# Altium integrated library WE-TPC.IntLib: 262 symbols (part 3 of 3)
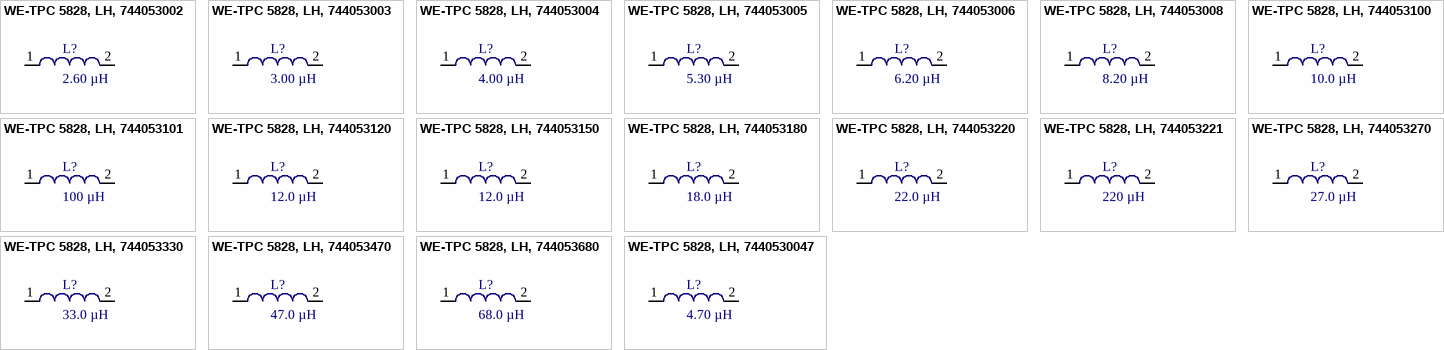
[diagram p17: symbols WE-TPC 5828, LH, 744053002 to WE-TPC 5828, LH, 7440530047]

## WE-TPC 5828, LH, 7440530047
designator L?, comment 4.70 µH
SMD Shielded Tiny Power Inductor WE-TPC, L=4.70 µH; partNo: 7440530047; Manufacturer: Würth Elektronik eiSos GmbH; Inductance: 4.70 µH; ComponentLink1Description: Manufacturer; ComponentLink1URL: http://www.we-online.de; Created by: Christin Zierenner; Created Date: July 2009; ComponentLink2Description: ComponentLink2Description; ComponentLink2URL: http://www.we-online.de/katalog/media/pdf/7440530047.pdf
footprint WE-TPC 5828, LH (SMD Inductor, 2-Leads, Body 5,8x5,8mm)
pins: 1, 2


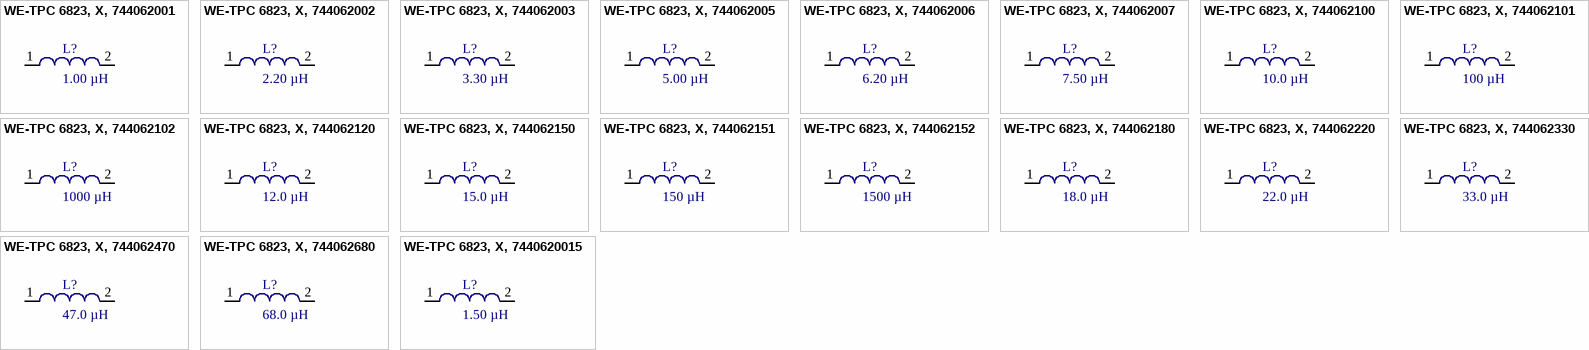
[diagram p11: symbols WE-TPC 6823, X, 744062001 to WE-TPC 6823, X, 7440620015]

## WE-TPC 6823, X, 744062001
designator L?, comment 1.00 µH
SMD Shielded Tiny Power Inductor WE-TPC, L=1.00 µH; partNo: 744062001; Manufacturer: Würth Elektronik eiSos GmbH; Inductance: 1.00 µH; ComponentLink1Description: Manufacturer; ComponentLink1URL: http://www.we-online.de; Created by: Christin Zierenner; Created Date: July 2009; ComponentLink2Description: Datasheet; ComponentLink2URL: http://www.we-online.de/katalog/media/pdf/744062001.pdf
footprint WE-TPC 6823, X (SMD Inductor, 2-Leads, Body 6,8x6,8mm)
pins: 1, 2

## WE-TPC 6823, X, 744062002
designator L?, comment 2.20 µH
SMD Shielded Tiny Power Inductor WE-TPC, L=2.20 µH; partNo: 744062002; Manufacturer: Würth Elektronik eiSos GmbH; Inductance: 2.20 µH; ComponentLink1Description: Manufacturer; ComponentLink1URL: http://www.we-online.de; Created by: Christin Zierenner; Created Date: July 2009; ComponentLink2Description: Datasheet; ComponentLink2URL: http://www.we-online.de/katalog/media/pdf/744062002.pdf
footprint WE-TPC 6823, X (SMD Inductor, 2-Leads, Body 6,8x6,8mm)
pins: 1, 2

## WE-TPC 6823, X, 744062003
designator L?, comment 3.30 µH
SMD Shielded Tiny Power Inductor WE-TPC, L=3.30 µH; partNo: 744062003; Manufacturer: Würth Elektronik eiSos GmbH; Inductance: 3.30 µH; ComponentLink1Description: Manufacturer; ComponentLink1URL: http://www.we-online.de; Created by: Christin Zierenner; Created Date: July 2009; ComponentLink2Description: Datasheet; ComponentLink2URL: http://www.we-online.de/katalog/media/pdf/744062003.pdf
footprint WE-TPC 6823, X (SMD Inductor, 2-Leads, Body 6,8x6,8mm)
pins: 1, 2

## WE-TPC 6823, X, 744062005
designator L?, comment 5.00 µH
SMD Shielded Tiny Power Inductor WE-TPC, L=5.00 µH; partNo: 744062005; Manufacturer: Würth Elektronik eiSos GmbH; Inductance: 5.00 µH; ComponentLink1Description: Manufacturer; ComponentLink1URL: http://www.we-online.de; Created by: Christin Zierenner; Created Date: July 2009; ComponentLink2Description: Datasheet; ComponentLink2URL: http://www.we-online.de/katalog/media/pdf/744062005.pdf
footprint WE-TPC 6823, X (SMD Inductor, 2-Leads, Body 6,8x6,8mm)
pins: 1, 2

## WE-TPC 6823, X, 744062006
designator L?, comment 6.20 µH
SMD Shielded Tiny Power Inductor WE-TPC, L=6.20 µH; partNo: 744062006; Manufacturer: Würth Elektronik eiSos GmbH; Inductance: 6.20 µH; ComponentLink1Description: Manufacturer; ComponentLink1URL: http://www.we-online.de; Created by: Christin Zierenner; Created Date: July 2009; ComponentLink2Description: Datasheet; ComponentLink2URL: http://www.we-online.de/katalog/media/pdf/744062006.pdf
footprint WE-TPC 6823, X (SMD Inductor, 2-Leads, Body 6,8x6,8mm)
pins: 1, 2

## WE-TPC 6823, X, 744062007
designator L?, comment 7.50 µH
SMD Shielded Tiny Power Inductor WE-TPC, L=7.50 µH; partNo: 744062007; Manufacturer: Würth Elektronik eiSos GmbH; Inductance: 7.50 µH; ComponentLink1Description: Manufacturer; ComponentLink1URL: http://www.we-online.de; Created by: Christin Zierenner; Created Date: July 2009; ComponentLink2Description: Datasheet; ComponentLink2URL: http://www.we-online.de/katalog/media/pdf/744062007.pdf
footprint WE-TPC 6823, X (SMD Inductor, 2-Leads, Body 6,8x6,8mm)
pins: 1, 2

## WE-TPC 6823, X, 744062100
designator L?, comment 10.0 µH
SMD Shielded Tiny Power Inductor WE-TPC, L=10.0 µH; partNo: 744062100; Manufacturer: Würth Elektronik eiSos GmbH; Inductance: 10.0 µH; ComponentLink1Description: Manufacturer; ComponentLink1URL: http://www.we-online.de; Created by: Christin Zierenner; Created Date: July 2009; ComponentLink2Description: Datasheet; ComponentLink2URL: http://www.we-online.de/katalog/media/pdf/744062100.pdf
footprint WE-TPC 6823, X (SMD Inductor, 2-Leads, Body 6,8x6,8mm)
pins: 1, 2

## WE-TPC 6823, X, 744062101
designator L?, comment 100 µH
SMD Shielded Tiny Power Inductor WE-TPC, L=100 µH; partNo: 744062101; Manufacturer: Würth Elektronik eiSos GmbH; Inductance: 100 µH; ComponentLink1Description: Manufacturer; ComponentLink1URL: http://www.we-online.de; Created by: Christin Zierenner; Created Date: July 2009; ComponentLink2Description: Datasheet; ComponentLink2URL: http://www.we-online.de/katalog/media/pdf/744062101.pdf
footprint WE-TPC 6823, X (SMD Inductor, 2-Leads, Body 6,8x6,8mm)
pins: 1, 2

## WE-TPC 6823, X, 744062102
designator L?, comment 1000 µH
SMD Shielded Tiny Power Inductor WE-TPC, L=1000 µH; partNo: 744062102; Manufacturer: Würth Elektronik eiSos GmbH; Inductance: 1000 µH; ComponentLink1Description: Manufacturer; ComponentLink1URL: http://www.we-online.de; Created by: Christin Zierenner; Created Date: July 2009; ComponentLink2Description: Datasheet; ComponentLink2URL: http://www.we-online.de/katalog/media/pdf/744062102.pdf
footprint WE-TPC 6823, X (SMD Inductor, 2-Leads, Body 6,8x6,8mm)
pins: 1, 2

## WE-TPC 6823, X, 744062120
designator L?, comment 12.0 µH
SMD Shielded Tiny Power Inductor WE-TPC, L=12.0 µH; partNo: 744062120; Manufacturer: Würth Elektronik eiSos GmbH; Inductance: 12.0 µH; ComponentLink1Description: Manufacturer; ComponentLink1URL: http://www.we-online.de; Created by: Christin Zierenner; Created Date: July 2009; ComponentLink2Description: Datasheet; ComponentLink2URL: http://www.we-online.de/katalog/media/pdf/744062120.pdf
footprint WE-TPC 6823, X (SMD Inductor, 2-Leads, Body 6,8x6,8mm)
pins: 1, 2

## WE-TPC 6823, X, 744062150
designator L?, comment 15.0 µH
SMD Shielded Tiny Power Inductor WE-TPC, L=15.0 µH; partNo: 744062150; Manufacturer: Würth Elektronik eiSos GmbH; Inductance: 15.0 µH; ComponentLink1Description: Manufacturer; ComponentLink1URL: http://www.we-online.de; Created by: Christin Zierenner; Created Date: July 2009; ComponentLink2Description: Datasheet; ComponentLink2URL: http://www.we-online.de/katalog/media/pdf/744062150.pdf
footprint WE-TPC 6823, X (SMD Inductor, 2-Leads, Body 6,8x6,8mm)
pins: 1, 2

## WE-TPC 6823, X, 744062151
designator L?, comment 150 µH
SMD Shielded Tiny Power Inductor WE-TPC, L=150 µH; partNo: 744062151; Manufacturer: Würth Elektronik eiSos GmbH; Inductance: 150 µH; ComponentLink1Description: Manufacturer; ComponentLink1URL: http://www.we-online.de; Created by: Christin Zierenner; Created Date: July 2009; ComponentLink2Description: Datasheet; ComponentLink2URL: http://www.we-online.de/katalog/media/pdf/744062151.pdf
footprint WE-TPC 6823, X (SMD Inductor, 2-Leads, Body 6,8x6,8mm)
pins: 1, 2

## WE-TPC 6823, X, 744062152
designator L?, comment 1500 µH
SMD Shielded Tiny Power Inductor WE-TPC, L=1500 µH; partNo: 744062152; Manufacturer: Würth Elektronik eiSos GmbH; Inductance: 1500 µH; ComponentLink1Description: Manufacturer; ComponentLink1URL: http://www.we-online.de; Created by: Christin Zierenner; Created Date: July 2009; ComponentLink2Description: Datasheet; ComponentLink2URL: http://www.we-online.de/katalog/media/pdf/744062152.pdf
footprint WE-TPC 6823, X (SMD Inductor, 2-Leads, Body 6,8x6,8mm)
pins: 1, 2

## WE-TPC 6823, X, 744062180
designator L?, comment 18.0 µH
SMD Shielded Tiny Power Inductor WE-TPC, L=18.0 µH; partNo: 744062180; Manufacturer: Würth Elektronik eiSos GmbH; Inductance: 18.0 µH; ComponentLink1Description: Manufacturer; ComponentLink1URL: http://www.we-online.de; Created by: Christin Zierenner; Created Date: July 2009; ComponentLink2Description: Datasheet; ComponentLink2URL: http://www.we-online.de/katalog/media/pdf/744062180.pdf
footprint WE-TPC 6823, X (SMD Inductor, 2-Leads, Body 6,8x6,8mm)
pins: 1, 2

## WE-TPC 6823, X, 744062220
designator L?, comment 22.0 µH
SMD Shielded Tiny Power Inductor WE-TPC, L=22.0 µH; partNo: 744062220; Manufacturer: Würth Elektronik eiSos GmbH; Inductance: 22.0 µH; ComponentLink1Description: Manufacturer; ComponentLink1URL: http://www.we-online.de; Created by: Christin Zierenner; Created Date: July 2009; ComponentLink2Description: Datasheet; ComponentLink2URL: http://www.we-online.de/katalog/media/pdf/744062220.pdf
footprint WE-TPC 6823, X (SMD Inductor, 2-Leads, Body 6,8x6,8mm)
pins: 1, 2

## WE-TPC 6823, X, 744062330
designator L?, comment 33.0 µH
SMD Shielded Tiny Power Inductor WE-TPC, L=33.0 µH; partNo: 744062330; Manufacturer: Würth Elektronik eiSos GmbH; Inductance: 33.0 µH; ComponentLink1Description: Manufacturer; ComponentLink1URL: http://www.we-online.de; Created by: Christin Zierenner; Created Date: July 2009; ComponentLink2Description: Datasheet; ComponentLink2URL: http://www.we-online.de/katalog/media/pdf/744062330.pdf
footprint WE-TPC 6823, X (SMD Inductor, 2-Leads, Body 6,8x6,8mm)
pins: 1, 2

## WE-TPC 6823, X, 744062470
designator L?, comment 47.0 µH
SMD Shielded Tiny Power Inductor WE-TPC, L=47.0 µH; partNo: 744062470; Manufacturer: Würth Elektronik eiSos GmbH; Inductance: 47.0 µH; ComponentLink1Description: Manufacturer; ComponentLink1URL: http://www.we-online.de; Created by: Christin Zierenner; Created Date: July 2009; ComponentLink2Description: Datasheet; ComponentLink2URL: http://www.we-online.de/katalog/media/pdf/744062470.pdf
footprint WE-TPC 6823, X (SMD Inductor, 2-Leads, Body 6,8x6,8mm)
pins: 1, 2

## WE-TPC 6823, X, 744062680
designator L?, comment 68.0 µH
SMD Shielded Tiny Power Inductor WE-TPC, L=68.0 µH; partNo: 744062680; Manufacturer: Würth Elektronik eiSos GmbH; Inductance: 68.0 µH; ComponentLink1Description: Manufacturer; ComponentLink1URL: http://www.we-online.de; Created by: Christin Zierenner; Created Date: July 2009; ComponentLink2Description: Datasheet; ComponentLink2URL: http://www.we-online.de/katalog/media/pdf/744062680.pdf
footprint WE-TPC 6823, X (SMD Inductor, 2-Leads, Body 6,8x6,8mm)
pins: 1, 2

## WE-TPC 6823, X, 7440620015
designator L?, comment 1.50 µH
SMD Shielded Tiny Power Inductor WE-TPC, L=1.50 µH; partNo: 7440620015; Manufacturer: Würth Elektronik eiSos GmbH; Inductance: 1.50 µH; ComponentLink1Description: Manufacturer; ComponentLink1URL: http://www.we-online.de; Created by: Christin Zierenner; Created Date: July 2009; ComponentLink2Description: Datasheet; ComponentLink2URL: http://www.we-online.de/katalog/media/pdf/7440620015.pdf
footprint WE-TPC 6823, X (SMD Inductor, 2-Leads, Body 6,8x6,8mm)
pins: 1, 2


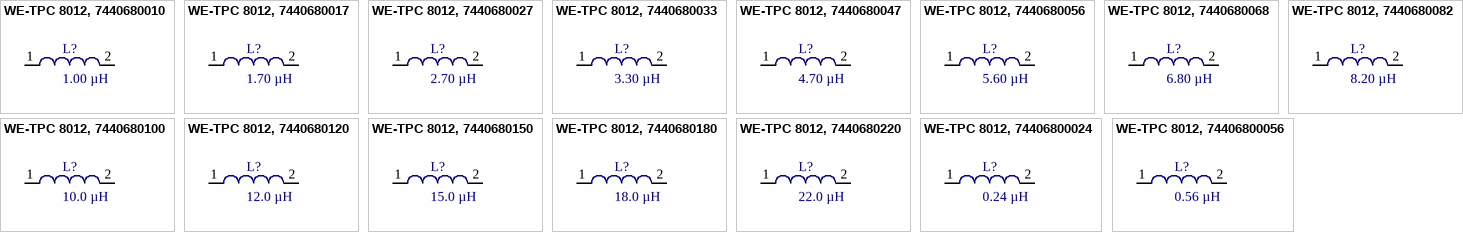
[diagram p12: symbols WE-TPC 8012, 7440680010 to WE-TPC 8012, 74406800056]

## WE-TPC 8012, 7440680010
designator L?, comment 1.00 µH
SMD Shielded Tiny Power Inductor WE-TPC, L=1.00 µH; partNo: 7440680010; Manufacturer: Würth Elektronik eiSos GmbH; Inductance: 1.00 µH; ComponentLink1Description: Manufacturer; ComponentLink1URL: http://www.we-online.de; Created by: Christin Zierenner; Created Date: July 2009; ComponentLink2Description: Datasheet; ComponentLink2URL: http://www.we-online.de/katalog/media/pdf/7440680010.pdf
footprint WE-TPC 8012 (SMD Inductor, 2-Leads, Body 8,0x8,0mm)
pins: 1, 2

## WE-TPC 8012, 7440680017
designator L?, comment 1.70 µH
SMD Shielded Tiny Power Inductor WE-TPC, L=1.70 µH; partNo: 7440680017; Manufacturer: Würth Elektronik eiSos GmbH; Inductance: 1.70 µH; ComponentLink1Description: Manufacturer; ComponentLink1URL: http://www.we-online.de; Created by: Christin Zierenner; Created Date: July 2009; ComponentLink2Description: Datasheet; ComponentLink2URL: http://www.we-online.de/katalog/media/pdf/7440680017.pdf
footprint WE-TPC 8012 (SMD Inductor, 2-Leads, Body 8,0x8,0mm)
pins: 1, 2

## WE-TPC 8012, 7440680027
designator L?, comment 2.70 µH
SMD Shielded Tiny Power Inductor WE-TPC, L=2.70 µH; partNo: 7440680027; Manufacturer: Würth Elektronik eiSos GmbH; Inductance: 2.70 µH; ComponentLink1Description: Manufacturer; ComponentLink1URL: http://www.we-online.de; Created by: Christin Zierenner; Created Date: July 2009; ComponentLink2Description: Datasheet; ComponentLink2URL: http://www.we-online.de/katalog/media/pdf/7440680027.pdf
footprint WE-TPC 8012 (SMD Inductor, 2-Leads, Body 8,0x8,0mm)
pins: 1, 2

## WE-TPC 8012, 7440680033
designator L?, comment 3.30 µH
SMD Shielded Tiny Power Inductor WE-TPC, L=3.30 µH; partNo: 7440680033; Manufacturer: Würth Elektronik eiSos GmbH; Inductance: 3.30 µH; ComponentLink1Description: Manufacturer; ComponentLink1URL: http://www.we-online.de; Created by: Christin Zierenner; Created Date: July 2009; ComponentLink2Description: Datasheet; ComponentLink2URL: http://www.we-online.de/katalog/media/pdf/7440680033.pdf
footprint WE-TPC 8012 (SMD Inductor, 2-Leads, Body 8,0x8,0mm)
pins: 1, 2

## WE-TPC 8012, 7440680047
designator L?, comment 4.70 µH
SMD Shielded Tiny Power Inductor WE-TPC, L=4.70 µH; partNo: 7440680047; Manufacturer: Würth Elektronik eiSos GmbH; Inductance: 4.70 µH; ComponentLink1Description: Manufacturer; ComponentLink1URL: http://www.we-online.de; Created by: Christin Zierenner; Created Date: July 2009; ComponentLink2Description: Datasheet; ComponentLink2URL: http://www.we-online.de/katalog/media/pdf/7440680047.pdf
footprint WE-TPC 8012 (SMD Inductor, 2-Leads, Body 8,0x8,0mm)
pins: 1, 2

## WE-TPC 8012, 7440680056
designator L?, comment 5.60 µH
SMD Shielded Tiny Power Inductor WE-TPC, L=5.60 µH; partNo: 7440680056; Manufacturer: Würth Elektronik eiSos GmbH; Inductance: 5.60 µH; ComponentLink1Description: Manufacturer; ComponentLink1URL: http://www.we-online.de; Created by: Christin Zierenner; Created Date: July 2009; ComponentLink2Description: Datasheet; ComponentLink2URL: http://www.we-online.de/katalog/media/pdf/7440680056.pdf
footprint WE-TPC 8012 (SMD Inductor, 2-Leads, Body 8,0x8,0mm)
pins: 1, 2

## WE-TPC 8012, 7440680068
designator L?, comment 6.80 µH
SMD Shielded Tiny Power Inductor WE-TPC, L=6.80 µH; partNo: 7440680068; Manufacturer: Würth Elektronik eiSos GmbH; Inductance: 6.80 µH; ComponentLink1Description: Manufacturer; ComponentLink1URL: http://www.we-online.de; Created by: Christin Zierenner; Created Date: July 2009; ComponentLink2Description: Datasheet; ComponentLink2URL: http://www.we-online.de/katalog/media/pdf/7440680068.pdf
footprint WE-TPC 8012 (SMD Inductor, 2-Leads, Body 8,0x8,0mm)
pins: 1, 2

## WE-TPC 8012, 7440680082
designator L?, comment 8.20 µH
SMD Shielded Tiny Power Inductor WE-TPC, L=8.20 µH; partNo: 7440680082; Manufacturer: Würth Elektronik eiSos GmbH; Inductance: 8.20 µH; ComponentLink1Description: Manufacturer; ComponentLink1URL: http://www.we-online.de; Created by: Christin Zierenner; Created Date: July 2009; ComponentLink2Description: Datasheet; ComponentLink2URL: http://www.we-online.de/katalog/media/pdf/7440680082.pdf
footprint WE-TPC 8012 (SMD Inductor, 2-Leads, Body 8,0x8,0mm)
pins: 1, 2

## WE-TPC 8012, 7440680100
designator L?, comment 10.0 µH
SMD Shielded Tiny Power Inductor WE-TPC, L=10.0 µH; partNo: 7440680100; Manufacturer: Würth Elektronik eiSos GmbH; Inductance: 10.0 µH; ComponentLink1Description: Manufacturer; ComponentLink1URL: http://www.we-online.de; Created by: Christin Zierenner; Created Date: July 2009; ComponentLink2Description: Datasheet; ComponentLink2URL: http://www.we-online.de/katalog/media/pdf/7440680100.pdf
footprint WE-TPC 8012 (SMD Inductor, 2-Leads, Body 8,0x8,0mm)
pins: 1, 2

## WE-TPC 8012, 7440680120
designator L?, comment 12.0 µH
SMD Shielded Tiny Power Inductor WE-TPC, L=12.0 µH; partNo: 7440680120; Manufacturer: Würth Elektronik eiSos GmbH; Inductance: 12.0 µH; ComponentLink1Description: Manufacturer; ComponentLink1URL: http://www.we-online.de; Created by: Christin Zierenner; Created Date: July 2009; ComponentLink2Description: Datasheet; ComponentLink2URL: http://www.we-online.de/katalog/media/pdf/7440680120.pdf
footprint WE-TPC 8012 (SMD Inductor, 2-Leads, Body 8,0x8,0mm)
pins: 1, 2

## WE-TPC 8012, 7440680150
designator L?, comment 15.0 µH
SMD Shielded Tiny Power Inductor WE-TPC, L=15.0 µH; partNo: 7440680150; Manufacturer: Würth Elektronik eiSos GmbH; Inductance: 15.0 µH; ComponentLink1Description: Manufacturer; ComponentLink1URL: http://www.we-online.de; Created by: Christin Zierenner; Created Date: July 2009; ComponentLink2Description: Datasheet; ComponentLink2URL: http://www.we-online.de/katalog/media/pdf/7440680150.pdf
footprint WE-TPC 8012 (SMD Inductor, 2-Leads, Body 8,0x8,0mm)
pins: 1, 2

## WE-TPC 8012, 7440680180
designator L?, comment 18.0 µH
SMD Shielded Tiny Power Inductor WE-TPC, L=18.0 µH; partNo: 7440680180; Manufacturer: Würth Elektronik eiSos GmbH; Inductance: 18.0 µH; ComponentLink1Description: Manufacturer; ComponentLink1URL: http://www.we-online.de; Created by: Christin Zierenner; Created Date: July 2009; ComponentLink2Description: Datasheet; ComponentLink2URL: http://www.we-online.de/katalog/media/pdf/7440680180.pdf
footprint WE-TPC 8012 (SMD Inductor, 2-Leads, Body 8,0x8,0mm)
pins: 1, 2

## WE-TPC 8012, 7440680220
designator L?, comment 22.0 µH
SMD Shielded Tiny Power Inductor WE-TPC, L=22.0 µH; partNo: 7440680220; Manufacturer: Würth Elektronik eiSos GmbH; Inductance: 22.0 µH; ComponentLink1Description: Manufacturer; ComponentLink1URL: http://www.we-online.de; Created by: Christin Zierenner; Created Date: July 2009; ComponentLink2Description: Datasheet; ComponentLink2URL: http://www.we-online.de/katalog/media/pdf/7440680220.pdf
footprint WE-TPC 8012 (SMD Inductor, 2-Leads, Body 8,0x8,0mm)
pins: 1, 2

## WE-TPC 8012, 74406800024
designator L?, comment 0.24 µH
SMD Shielded Tiny Power Inductor WE-TPC, L=0.24 µH; partNo: 74406800024; Manufacturer: Würth Elektronik eiSos GmbH; Inductance: 0.24 µH; ComponentLink1Description: Manufacturer; ComponentLink1URL: http://www.we-online.de; Created by: Christin Zierenner; Created Date: July 2009; ComponentLink2Description: Datasheet; ComponentLink2URL: http://www.we-online.de/katalog/media/pdf/74406800024.pdf
footprint WE-TPC 8012 (SMD Inductor, 2-Leads, Body 8,0x8,0mm)
pins: 1, 2

## WE-TPC 8012, 74406800056
designator L?, comment 0.56 µH
SMD Shielded Tiny Power Inductor WE-TPC, L=0.56 µH; partNo: 74406800056; Manufacturer: Würth Elektronik eiSos GmbH; Inductance: 0.56 µH; ComponentLink1Description: Manufacturer; ComponentLink1URL: http://www.we-online.de; Created by: Christin Zierenner; Created Date: July 2009; ComponentLink2Description: Datasheet; ComponentLink2URL: http://www.we-online.de/katalog/media/pdf/74406800056.pdf
footprint WE-TPC 8012 (SMD Inductor, 2-Leads, Body 8,0x8,0mm)
pins: 1, 2


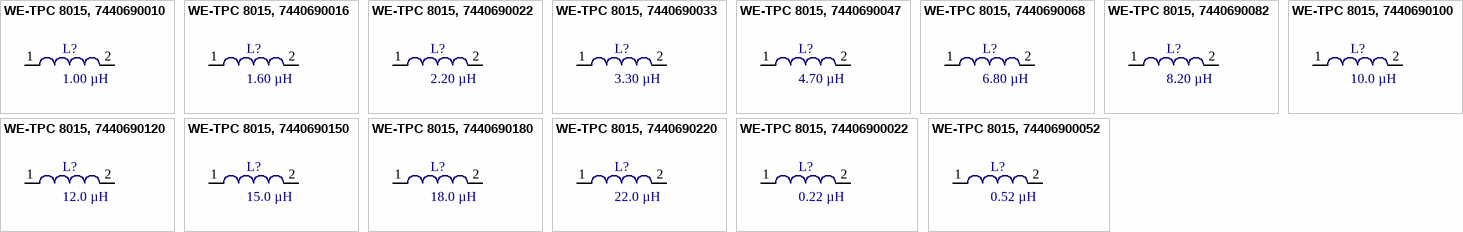
[diagram p13: symbols WE-TPC 8015, 7440690010 to WE-TPC 8015, 74406900052]

## WE-TPC 8015, 7440690010
designator L?, comment 1.00 µH
SMD Shielded Tiny Power Inductor WE-TPC, L=1.00 µH; partNo: 7440690010; Manufacturer: Würth Elektronik eiSos GmbH; Inductance: 1.00 µH; ComponentLink1Description: Manufacturer; ComponentLink1URL: http://www.we-online.de; Created by: Christin Zierenner; Created Date: July 2009; ComponentLink2Description: Datasheet; ComponentLink2URL: http://www.we-online.de/katalog/media/pdf/7440690010.pdf
footprint WE-TPC 8015 (SMD Inductor, 2-Leads, Body 8,0x8,0mm)
pins: 1, 2

## WE-TPC 8015, 7440690016
designator L?, comment 1.60 µH
SMD Shielded Tiny Power Inductor WE-TPC, L=1.60 µH; partNo: 7440690016; Manufacturer: Würth Elektronik eiSos GmbH; Inductance: 1.60 µH; ComponentLink1Description: Manufacturer; ComponentLink1URL: http://www.we-online.de; Created by: Christin Zierenner; Created Date: July 2009; ComponentLink2Description: Datasheet; ComponentLink2URL: http://www.we-online.de/katalog/media/pdf/7440690016.pdf
footprint WE-TPC 8015 (SMD Inductor, 2-Leads, Body 8,0x8,0mm)
pins: 1, 2

## WE-TPC 8015, 7440690022
designator L?, comment 2.20 µH
SMD Shielded Tiny Power Inductor WE-TPC, L=2.20 µH; partNo: 7440690022; Manufacturer: Würth Elektronik eiSos GmbH; Inductance: 2.20 µH; ComponentLink1Description: Manufacturer; ComponentLink1URL: http://www.we-online.de; Created by: Christin Zierenner; Created Date: July 2009; ComponentLink2Description: Datasheet; ComponentLink2URL: http://www.we-online.de/katalog/media/pdf/7440690022.pdf
footprint WE-TPC 8015 (SMD Inductor, 2-Leads, Body 8,0x8,0mm)
pins: 1, 2

## WE-TPC 8015, 7440690033
designator L?, comment 3.30 µH
SMD Shielded Tiny Power Inductor WE-TPC, L=3.30 µH; partNo: 7440690033; Manufacturer: Würth Elektronik eiSos GmbH; Inductance: 3.30 µH; ComponentLink1Description: Manufacturer; ComponentLink1URL: http://www.we-online.de; Created by: Christin Zierenner; Created Date: July 2009; ComponentLink2Description: Datasheet; ComponentLink2URL: http://www.we-online.de/katalog/media/pdf/7440690033.pdf
footprint WE-TPC 8015 (SMD Inductor, 2-Leads, Body 8,0x8,0mm)
pins: 1, 2

## WE-TPC 8015, 7440690047
designator L?, comment 4.70 µH
SMD Shielded Tiny Power Inductor WE-TPC, L=4.70 µH; partNo: 7440690047; Manufacturer: Würth Elektronik eiSos GmbH; Inductance: 4.70 µH; ComponentLink1Description: Manufacturer; ComponentLink1URL: http://www.we-online.de; Created by: Christin Zierenner; Created Date: July 2009; ComponentLink2Description: Datasheet; ComponentLink2URL: http://www.we-online.de/katalog/media/pdf/7440690047.pdf
footprint WE-TPC 8015 (SMD Inductor, 2-Leads, Body 8,0x8,0mm)
pins: 1, 2

## WE-TPC 8015, 7440690068
designator L?, comment 6.80 µH
SMD Shielded Tiny Power Inductor WE-TPC, L=6.80 µH; partNo: 7440690068; Manufacturer: Würth Elektronik eiSos GmbH; Inductance: 6.80 µH; ComponentLink1Description: Manufacturer; ComponentLink1URL: http://www.we-online.de; Created by: Christin Zierenner; Created Date: July 2009; ComponentLink2Description: Datasheet; ComponentLink2URL: http://www.we-online.de/katalog/media/pdf/7440690068.pdf
footprint WE-TPC 8015 (SMD Inductor, 2-Leads, Body 8,0x8,0mm)
pins: 1, 2

## WE-TPC 8015, 7440690082
designator L?, comment 8.20 µH
SMD Shielded Tiny Power Inductor WE-TPC, L=8.20 µH; partNo: 7440690082; Manufacturer: Würth Elektronik eiSos GmbH; Inductance: 8.20 µH; ComponentLink1Description: Manufacturer; ComponentLink1URL: http://www.we-online.de; Created by: Christin Zierenner; Created Date: July 2009; ComponentLink2Description: Datasheet; ComponentLink2URL: http://www.we-online.de/katalog/media/pdf/7440690082.pdf
footprint WE-TPC 8015 (SMD Inductor, 2-Leads, Body 8,0x8,0mm)
pins: 1, 2

## WE-TPC 8015, 7440690100
designator L?, comment 10.0 µH
SMD Shielded Tiny Power Inductor WE-TPC, L=10.0 µH; partNo: 7440690100; Manufacturer: Würth Elektronik eiSos GmbH; Inductance: 10.0 µH; ComponentLink1Description: Manufacturer; ComponentLink1URL: http://www.we-online.de; Created by: Christin Zierenner; Created Date: July 2009; ComponentLink2Description: Datasheet; ComponentLink2URL: http://www.we-online.de/katalog/media/pdf/7440690100.pdf
footprint WE-TPC 8015 (SMD Inductor, 2-Leads, Body 8,0x8,0mm)
pins: 1, 2

## WE-TPC 8015, 7440690120
designator L?, comment 12.0 µH
SMD Shielded Tiny Power Inductor WE-TPC, L=12.0 µH; partNo: 7440690120; Manufacturer: Würth Elektronik eiSos GmbH; Inductance: 12.0 µH; ComponentLink1Description: Manufacturer; ComponentLink1URL: http://www.we-online.de; Created by: Christin Zierenner; Created Date: July 2009; ComponentLink2Description: Datasheet; ComponentLink2URL: http://www.we-online.de/katalog/media/pdf/7440690120.pdf
footprint WE-TPC 8015 (SMD Inductor, 2-Leads, Body 8,0x8,0mm)
pins: 1, 2

## WE-TPC 8015, 7440690150
designator L?, comment 15.0 µH
SMD Shielded Tiny Power Inductor WE-TPC, L=15.0 µH; partNo: 7440690150; Manufacturer: Würth Elektronik eiSos GmbH; Inductance: 15.0 µH; ComponentLink1Description: Manufacturer; ComponentLink1URL: http://www.we-online.de; Created by: Christin Zierenner; Created Date: July 2009; ComponentLink2Description: Datasheet; ComponentLink2URL: http://www.we-online.de/katalog/media/pdf/7440690150.pdf
footprint WE-TPC 8015 (SMD Inductor, 2-Leads, Body 8,0x8,0mm)
pins: 1, 2

## WE-TPC 8015, 7440690180
designator L?, comment 18.0 µH
SMD Shielded Tiny Power Inductor WE-TPC, L=18.0 µH; partNo: 7440690180; Manufacturer: Würth Elektronik eiSos GmbH; Inductance: 18.0 µH; ComponentLink1Description: Manufacturer; ComponentLink1URL: http://www.we-online.de; Created by: Christin Zierenner; Created Date: July 2009; ComponentLink2Description: Datasheet; ComponentLink2URL: http://www.we-online.de/katalog/media/pdf/7440690180.pdf
footprint WE-TPC 8015 (SMD Inductor, 2-Leads, Body 8,0x8,0mm)
pins: 1, 2

## WE-TPC 8015, 7440690220
designator L?, comment 22.0 µH
SMD Shielded Tiny Power Inductor WE-TPC, L=22.0 µH; partNo: 7440690220; Manufacturer: Würth Elektronik eiSos GmbH; Inductance: 22.0 µH; ComponentLink1Description: Manufacturer; ComponentLink1URL: http://www.we-online.de; Created by: Christin Zierenner; Created Date: July 2009; ComponentLink2Description: Datasheet; ComponentLink2URL: http://www.we-online.de/katalog/media/pdf/7440690220.pdf
footprint WE-TPC 8015 (SMD Inductor, 2-Leads, Body 8,0x8,0mm)
pins: 1, 2

## WE-TPC 8015, 74406900022
designator L?, comment 0.22 µH
SMD Shielded Tiny Power Inductor WE-TPC, L=0.22 µH; partNo: 74406900022; Manufacturer: Würth Elektronik eiSos GmbH; Inductance: 0.22 µH; ComponentLink1Description: Manufacturer; ComponentLink1URL: http://www.we-online.de; Created by: Christin Zierenner; Created Date: July 2009; ComponentLink2Description: Datasheet; ComponentLink2URL: http://www.we-online.de/katalog/media/pdf/74406900022.pdf
footprint WE-TPC 8015 (SMD Inductor, 2-Leads, Body 8,0x8,0mm)
pins: 1, 2

## WE-TPC 8015, 74406900052
designator L?, comment 0.52 µH
SMD Shielded Tiny Power Inductor WE-TPC, L=0.52 µH; partNo: 74406900052; Manufacturer: Würth Elektronik eiSos GmbH; Inductance: 0.52 µH; ComponentLink1Description: Manufacturer; ComponentLink1URL: http://www.we-online.de; Created by: Christin Zierenner; Created Date: July 2009; ComponentLink2Description: Datasheet; ComponentLink2URL: http://www.we-online.de/katalog/media/pdf/74406900052.pdf
footprint WE-TPC 8015 (SMD Inductor, 2-Leads, Body 8,0x8,0mm)
pins: 1, 2


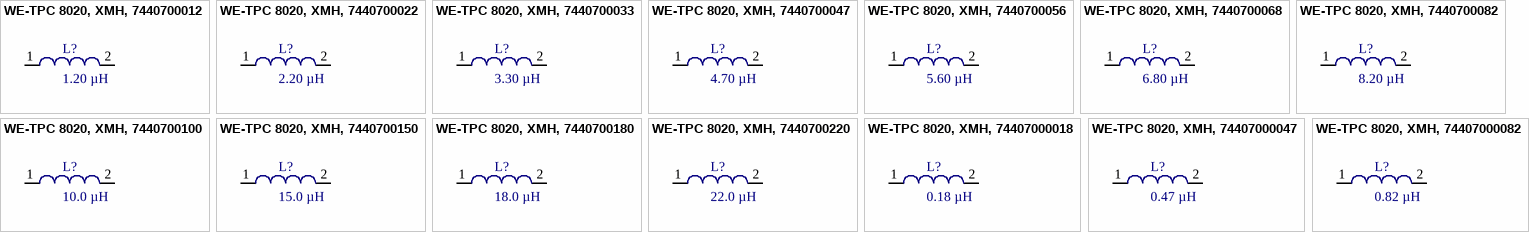
[diagram p14: symbols WE-TPC 8020, XMH, 7440700012 to WE-TPC 8020, XMH, 74407000082]

## WE-TPC 8020, XMH, 7440700012
designator L?, comment 1.20 µH
SMD Shielded Tiny Power Inductor WE-TPC, L=1.20 µH; partNo: 7440700012; Manufacturer: Würth Elektronik eiSos GmbH; Inductance: 1.20 µH; ComponentLink1Description: Manufacturer; ComponentLink1URL: http://www.we-online.de; Created by: Christin Zierenner; Created Date: July 2009; ComponentLink2Description: Datasheet; ComponentLink2URL: http://www.we-online.de/katalog/media/pdf/7440700012.pdf
footprint WE-TPC 8020, XMH (SMD Inductor, 2-Leads, Body 8x8mm)
pins: 1, 2

## WE-TPC 8020, XMH, 7440700022
designator L?, comment 2.20 µH
SMD Shielded Tiny Power Inductor WE-TPC, L=2.20 µH; partNo: 7440700022; Manufacturer: Würth Elektronik eiSos GmbH; Inductance: 2.20 µH; ComponentLink1Description: Manufacturer; ComponentLink1URL: http://www.we-online.de; Created by: Christin Zierenner; Created Date: July 2009; ComponentLink2Description: Datasheet; ComponentLink2URL: http://www.we-online.de/katalog/media/pdf/7440700022.pdf
footprint WE-TPC 8020, XMH (SMD Inductor, 2-Leads, Body 8x8mm)
pins: 1, 2

## WE-TPC 8020, XMH, 7440700033
designator L?, comment 3.30 µH
SMD Shielded Tiny Power Inductor WE-TPC, L=3.30 µH; partNo: 7440700033; Manufacturer: Würth Elektronik eiSos GmbH; Inductance: 3.30 µH; ComponentLink1Description: Manufacturer; ComponentLink1URL: http://www.we-online.de; Created by: Christin Zierenner; Created Date: July 2009; ComponentLink2Description: Datasheet; ComponentLink2URL: http://www.we-online.de/katalog/media/pdf/7440700033.pdf
footprint WE-TPC 8020, XMH (SMD Inductor, 2-Leads, Body 8x8mm)
pins: 1, 2

## WE-TPC 8020, XMH, 7440700047
designator L?, comment 4.70 µH
SMD Shielded Tiny Power Inductor WE-TPC, L=4.70 µH; partNo: 7440700047; Manufacturer: Würth Elektronik eiSos GmbH; Inductance: 4.70 µH; ComponentLink1Description: Manufacturer; ComponentLink1URL: http://www.we-online.de; Created by: Christin Zierenner; Created Date: July 2009; ComponentLink2Description: Datasheet; ComponentLink2URL: http://www.we-online.de/katalog/media/pdf/7440700047.pdf
footprint WE-TPC 8020, XMH (SMD Inductor, 2-Leads, Body 8x8mm)
pins: 1, 2

## WE-TPC 8020, XMH, 7440700056
designator L?, comment 5.60 µH
SMD Shielded Tiny Power Inductor WE-TPC, L=5.60 µH; partNo: 7440700056; Manufacturer: Würth Elektronik eiSos GmbH; Inductance: 5.60 µH; ComponentLink1Description: Manufacturer; ComponentLink1URL: http://www.we-online.de; Created by: Christin Zierenner; Created Date: July 2009; ComponentLink2Description: Datasheet; ComponentLink2URL: http://www.we-online.de/katalog/media/pdf/7440700056.pdf
footprint WE-TPC 8020, XMH (SMD Inductor, 2-Leads, Body 8x8mm)
pins: 1, 2

## WE-TPC 8020, XMH, 7440700068
designator L?, comment 6.80 µH
SMD Shielded Tiny Power Inductor WE-TPC, L=6.80 µH; partNo: 7440700068; Manufacturer: Würth Elektronik eiSos GmbH; Inductance: 6.80 µH; ComponentLink1Description: Manufacturer; ComponentLink1URL: http://www.we-online.de; Created by: Christin Zierenner; Created Date: July 2009; ComponentLink2Description: Datasheet; ComponentLink2URL: http://www.we-online.de/katalog/media/pdf/7440700068.pdf
footprint WE-TPC 8020, XMH (SMD Inductor, 2-Leads, Body 8x8mm)
pins: 1, 2

## WE-TPC 8020, XMH, 7440700082
designator L?, comment 8.20 µH
SMD Shielded Tiny Power Inductor WE-TPC, L=8.20 µH; partNo: 7440700082; Manufacturer: Würth Elektronik eiSos GmbH; Inductance: 8.20 µH; ComponentLink1Description: Manufacturer; ComponentLink1URL: http://www.we-online.de; Created by: Christin Zierenner; Created Date: July 2009; ComponentLink2Description: Datasheet; ComponentLink2URL: http://www.we-online.de/katalog/media/pdf/7440700082.pdf
footprint WE-TPC 8020, XMH (SMD Inductor, 2-Leads, Body 8x8mm)
pins: 1, 2

## WE-TPC 8020, XMH, 7440700100
designator L?, comment 10.0 µH
SMD Shielded Tiny Power Inductor WE-TPC, L=10.0 µH; partNo: 7440700100; Manufacturer: Würth Elektronik eiSos GmbH; Inductance: 10.0 µH; ComponentLink1Description: Manufacturer; ComponentLink1URL: http://www.we-online.de; Created by: Christin Zierenner; Created Date: July 2009; ComponentLink2Description: Datasheet; ComponentLink2URL: http://www.we-online.de/katalog/media/pdf/7440700100.pdf
footprint WE-TPC 8020, XMH (SMD Inductor, 2-Leads, Body 8x8mm)
pins: 1, 2

## WE-TPC 8020, XMH, 7440700150
designator L?, comment 15.0 µH
SMD Shielded Tiny Power Inductor WE-TPC, L=15.0 µH; partNo: 7440700150; Manufacturer: Würth Elektronik eiSos GmbH; Inductance: 15.0 µH; ComponentLink1Description: Manufacturer; ComponentLink1URL: http://www.we-online.de; Created by: Christin Zierenner; Created Date: July 2009; ComponentLink2Description: Datasheet; ComponentLink2URL: http://www.we-online.de/katalog/media/pdf/7440700150.pdf
footprint WE-TPC 8020, XMH (SMD Inductor, 2-Leads, Body 8x8mm)
pins: 1, 2

## WE-TPC 8020, XMH, 7440700180
designator L?, comment 18.0 µH
SMD Shielded Tiny Power Inductor WE-TPC, L=18.0 µH; partNo: 7440700180; Manufacturer: Würth Elektronik eiSos GmbH; Inductance: 18.0 µH; ComponentLink1Description: Manufacturer; ComponentLink1URL: http://www.we-online.de; Created by: Christin Zierenner; Created Date: July 2009; ComponentLink2Description: Datasheet; ComponentLink2URL: http://www.we-online.de/katalog/media/pdf/7440700180.pdf
footprint WE-TPC 8020, XMH (SMD Inductor, 2-Leads, Body 8x8mm)
pins: 1, 2

## WE-TPC 8020, XMH, 7440700220
designator L?, comment 22.0 µH
SMD Shielded Tiny Power Inductor WE-TPC, L=22.0 µH; partNo: 7440700220; Manufacturer: Würth Elektronik eiSos GmbH; Inductance: 22.0 µH; ComponentLink1Description: Manufacturer; ComponentLink1URL: http://www.we-online.de; Created by: Christin Zierenner; Created Date: July 2009; ComponentLink2Description: Datasheet; ComponentLink2URL: http://www.we-online.de/katalog/media/pdf/7440700220.pdf
footprint WE-TPC 8020, XMH (SMD Inductor, 2-Leads, Body 8x8mm)
pins: 1, 2

## WE-TPC 8020, XMH, 74407000018
designator L?, comment 0.18 µH
SMD Shielded Tiny Power Inductor WE-TPC, L=0.18 µH; partNo: 74407000018; Manufacturer: Würth Elektronik eiSos GmbH; Inductance: 0.18 µH; ComponentLink1Description: Manufacturer; ComponentLink1URL: http://www.we-online.de; Created by: Christin Zierenner; Created Date: July 2009; ComponentLink2Description: Datasheet; ComponentLink2URL: http://www.we-online.de/katalog/media/pdf/74407000018.pdf
footprint WE-TPC 8020, XMH (SMD Inductor, 2-Leads, Body 8x8mm)
pins: 1, 2

## WE-TPC 8020, XMH, 74407000047
designator L?, comment 0.47 µH
SMD Shielded Tiny Power Inductor WE-TPC, L=0.47 µH; partNo: 74407000047; Manufacturer: Würth Elektronik eiSos GmbH; Inductance: 0.47 µH; ComponentLink1Description: Manufacturer; ComponentLink1URL: http://www.we-online.de; Created by: Christin Zierenner; Created Date: July 2009; ComponentLink2Description: Datasheet; ComponentLink2URL: http://www.we-online.de/katalog/media/pdf/74407000047.pdf
footprint WE-TPC 8020, XMH (SMD Inductor, 2-Leads, Body 8x8mm)
pins: 1, 2

## WE-TPC 8020, XMH, 74407000082
designator L?, comment 0.82 µH
SMD Shielded Tiny Power Inductor WE-TPC, L=0.82 µH; partNo: 74407000082; Manufacturer: Würth Elektronik eiSos GmbH; Inductance: 0.82 µH; ComponentLink1Description: Manufacturer; ComponentLink1URL: http://www.we-online.de; Created by: Christin Zierenner; Created Date: July 2009; ComponentLink2Description: Datasheet; ComponentLink2URL: http://www.we-online.de/katalog/media/pdf/74407000082.pdf
footprint WE-TPC 8020, XMH (SMD Inductor, 2-Leads, Body 8x8mm)
pins: 1, 2


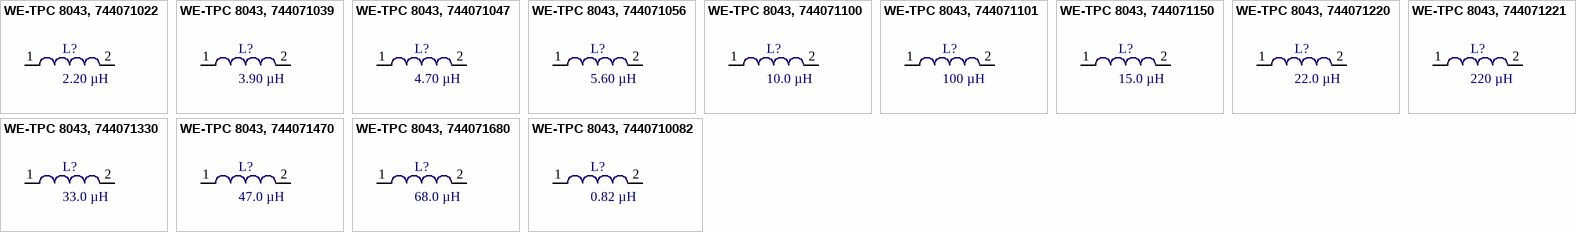
[diagram p15: symbols WE-TPC 8043, 744071022 to WE-TPC 8043, 7440710082]

## WE-TPC 8043, 744071022
designator L?, comment 2.20 µH
SMD Shielded Tiny Power Inductor WE-TPC, L=2.20 µH; partNo: 744071022; Manufacturer: Würth Elektronik eiSos GmbH; Inductance: 2.20 µH; ComponentLink1Description: Manufacturer; ComponentLink1URL: http://www.we-online.de; Created by: Christin Otto; Created Date: February 2013; ComponentLink2Description: Datasheet; ComponentLink2URL: http://www.we-online.de/katalog/media/pdf/744071022.pdf
footprint WE-TPC 8043 (SMD Inductor, 2-Leads, Body 8,0x8,0mm)
pins: 1, 2

## WE-TPC 8043, 744071039
designator L?, comment 3.90 µH
SMD Shielded Tiny Power Inductor WE-TPC, L=23.90 µH; partNo: 744071039; Manufacturer: Würth Elektronik eiSos GmbH; Inductance: 3.90 µH; ComponentLink1Description: Manufacturer; ComponentLink1URL: http://www.we-online.de; Created by: Christin Otto; Created Date: February 2013; ComponentLink2Description: Datasheet; ComponentLink2URL: http://www.we-online.de/katalog/media/pdf/744071039.pdf
footprint WE-TPC 8043 (SMD Inductor, 2-Leads, Body 8,0x8,0mm)
pins: 1, 2

## WE-TPC 8043, 744071047
designator L?, comment 4.70 µH
SMD Shielded Tiny Power Inductor WE-TPC, L=4.70 µH; partNo: 744071047; Manufacturer: Würth Elektronik eiSos GmbH; Inductance: 4.70 µH; ComponentLink1Description: Manufacturer; ComponentLink1URL: http://www.we-online.de; Created by: Christin Otto; Created Date: February 2013; ComponentLink2Description: Datasheet; ComponentLink2URL: http://www.we-online.de/katalog/media/pdf/744071047.pdf
footprint WE-TPC 8043 (SMD Inductor, 2-Leads, Body 8,0x8,0mm)
pins: 1, 2

## WE-TPC 8043, 744071056
designator L?, comment 5.60 µH
SMD Shielded Tiny Power Inductor WE-TPC, L=5.60 µH; partNo: 744071056; Manufacturer: Würth Elektronik eiSos GmbH; Inductance: 5.60 µH; ComponentLink1Description: Manufacturer; ComponentLink1URL: http://www.we-online.de; Created by: Christin Otto; Created Date: February 2013; ComponentLink2Description: Datasheet; ComponentLink2URL: http://www.we-online.de/katalog/media/pdf/744071056.pdf
footprint WE-TPC 8043 (SMD Inductor, 2-Leads, Body 8,0x8,0mm)
pins: 1, 2

## WE-TPC 8043, 744071100
designator L?, comment 10.0 µH
SMD Shielded Tiny Power Inductor WE-TPC, L=10.0 µH; partNo: 744071100; Manufacturer: Würth Elektronik eiSos GmbH; Inductance: 10.0 µH; ComponentLink1Description: Manufacturer; ComponentLink1URL: http://www.we-online.de; Created by: Christin Otto; Created Date: February 2013; ComponentLink2Description: Datasheet; ComponentLink2URL: http://www.we-online.de/katalog/media/pdf/744071100.pdf
footprint WE-TPC 8043 (SMD Inductor, 2-Leads, Body 8,0x8,0mm)
pins: 1, 2

## WE-TPC 8043, 744071101
designator L?, comment 100 µH
SMD Shielded Tiny Power Inductor WE-TPC, L=100 µH; partNo: 744071101; Manufacturer: Würth Elektronik eiSos GmbH; Inductance: 100 µH; ComponentLink1Description: Manufacturer; ComponentLink1URL: http://www.we-online.de; Created by: Christin Otto; Created Date: February 2013; ComponentLink2Description: Datasheet; ComponentLink2URL: http://www.we-online.de/katalog/media/pdf/744071101.pdf
footprint WE-TPC 8043 (SMD Inductor, 2-Leads, Body 8,0x8,0mm)
pins: 1, 2

## WE-TPC 8043, 744071150
designator L?, comment 15.0 µH
SMD Shielded Tiny Power Inductor WE-TPC, L=15.0 µH; partNo: 744071150; Manufacturer: Würth Elektronik eiSos GmbH; Inductance: 15.0 µH; ComponentLink1Description: Manufacturer; ComponentLink1URL: http://www.we-online.de; Created by: Christin Otto; Created Date: February 2013; ComponentLink2Description: Datasheet; ComponentLink2URL: http://www.we-online.de/katalog/media/pdf/744071150.pdf
footprint WE-TPC 8043 (SMD Inductor, 2-Leads, Body 8,0x8,0mm)
pins: 1, 2

## WE-TPC 8043, 744071220
designator L?, comment 22.0 µH
SMD Shielded Tiny Power Inductor WE-TPC, L=22.0 µH; partNo: 744071220; Manufacturer: Würth Elektronik eiSos GmbH; Inductance: 22.0 µH; ComponentLink1Description: Manufacturer; ComponentLink1URL: http://www.we-online.de; Created by: Christin Otto; Created Date: February 2013; ComponentLink2Description: Datasheet; ComponentLink2URL: http://www.we-online.de/katalog/media/pdf/744071220.pdf
footprint WE-TPC 8043 (SMD Inductor, 2-Leads, Body 8,0x8,0mm)
pins: 1, 2

## WE-TPC 8043, 744071221
designator L?, comment 220 µH
SMD Shielded Tiny Power Inductor WE-TPC, L=220 µH; partNo: 744071221; Manufacturer: Würth Elektronik eiSos GmbH; Inductance: 220 µH; ComponentLink1Description: Manufacturer; ComponentLink1URL: http://www.we-online.de; Created by: Christin Otto; Created Date: February 2013; ComponentLink2Description: Datasheet; ComponentLink2URL: http://www.we-online.de/katalog/media/pdf/744071221.pdf
footprint WE-TPC 8043 (SMD Inductor, 2-Leads, Body 8,0x8,0mm)
pins: 1, 2

## WE-TPC 8043, 744071330
designator L?, comment 33.0 µH
SMD Shielded Tiny Power Inductor WE-TPC, L=33.0 µH; partNo: 744071330; Manufacturer: Würth Elektronik eiSos GmbH; Inductance: 33.0 µH; ComponentLink1Description: Manufacturer; ComponentLink1URL: http://www.we-online.de; Created by: Christin Otto; Created Date: February 2013; ComponentLink2Description: Datasheet; ComponentLink2URL: http://www.we-online.de/katalog/media/pdf/744071330.pdf
footprint WE-TPC 8043 (SMD Inductor, 2-Leads, Body 8,0x8,0mm)
pins: 1, 2

## WE-TPC 8043, 744071470
designator L?, comment 47.0 µH
SMD Shielded Tiny Power Inductor WE-TPC, L=47.0 µH; partNo: 744071470; Manufacturer: Würth Elektronik eiSos GmbH; Inductance: 47.0 µH; ComponentLink1Description: Manufacturer; ComponentLink1URL: http://www.we-online.de; Created by: Christin Otto; Created Date: February 2013; ComponentLink2Description: Datasheet; ComponentLink2URL: http://www.we-online.de/katalog/media/pdf/744071470.pdf
footprint WE-TPC 8043 (SMD Inductor, 2-Leads, Body 8,0x8,0mm)
pins: 1, 2

## WE-TPC 8043, 744071680
designator L?, comment 68.0 µH
SMD Shielded Tiny Power Inductor WE-TPC, L=68.0 µH; partNo: 744071680; Manufacturer: Würth Elektronik eiSos GmbH; Inductance: 68.0 µH; ComponentLink1Description: Manufacturer; ComponentLink1URL: http://www.we-online.de; Created by: Christin Otto; Created Date: February 2013; ComponentLink2Description: Datasheet; ComponentLink2URL: http://www.we-online.de/katalog/media/pdf/744071680.pdf
footprint WE-TPC 8043 (SMD Inductor, 2-Leads, Body 8,0x8,0mm)
pins: 1, 2

## WE-TPC 8043, 7440710082
designator L?, comment 0.82 µH
SMD Shielded Tiny Power Inductor WE-TPC, L=0.82 µH; partNo: 7440710082; Manufacturer: Würth Elektronik eiSos GmbH; Inductance: 0.82 µH; ComponentLink1Description: Manufacturer; ComponentLink1URL: http://www.we-online.de; Created by: Christin Otto; Created Date: February 2013; ComponentLink2Description: Datasheet; ComponentLink2URL: http://www.we-online.de/katalog/media/pdf/7440710082.pdf
footprint WE-TPC 8043 (SMD Inductor, 2-Leads, Body 8,0x8,0mm)
pins: 1, 2